# Altium footprint library ESP32-WROOM-32.PcbLib: 1 footprints
Each footprint in its own frame and in the unit in brackets; x right, y up, seen from the top. Pads: shape width x height; smd on the part's side, far side on the other; paste and mask are expansions set on the pad; w line width, h text height; cw(c..) or ccw(c..) is an arc to the next point about the centre after c.
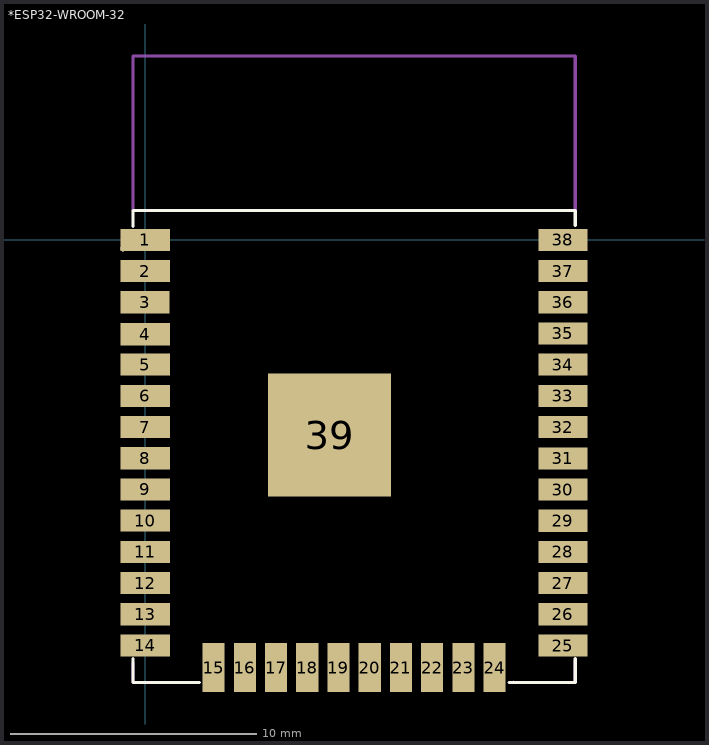
[diagram p0: the footprint, top view; thin cyan lines are the x and y axes]

## *ESP32-WROOM-32 [mm]
pads (39):
  rect 2x0.9 smd: 1(0,0) 2(0,-1.27) 3(-0.01,-2.54) 4(0,-3.84) 5(0,-5.08) 6(0,-6.35) 7(0,-7.62) 8(0,-8.89) 9(0,-10.16) 10(0,-11.43) 11(0,-12.7) 12(0,-13.97) 13(0,-15.24) 14(0,-16.51) 25(16.999,-16.511) 26(16.999,-15.238) 27(17.001,-13.971) 28(16.999,-12.702) 29(16.997,-11.432) 30(16.999,-10.161) 31(17.002,-8.891) 32(17,-7.622) 33(17,-6.35) 34(17,-5.08) 35(17,-3.81) 36(17,-2.54) 37(17,-1.27) 38(17,0)
  rect 0.9x2 smd: 15(2.785,-17.41) 16(4.055,-17.41) 17(5.325,-17.41) 18(6.595,-17.41) 19(7.865,-17.41) 20(9.135,-17.41) 21(10.405,-17.41) 22(11.675,-17.41) 23(12.945,-17.41) 24(14.215,-17.41)
  rect 5x5 smd: 39(7.502,-7.946)
Top Overlay:
  circle w0: c-0.9,-0.35 r0.092
  lines w0.127: -0.5,-17.05 -0.5,-18.01 2.2,-18.01 ; -0.5,0.54 -0.5,1.19 17.5,1.19 17.5,0.58 ; 14.81,-18.01 17.5,-18.01 17.5,-17.05
Mechanical 4:
  lines w0.127: -0.5,-18.01 2.05,-18.01 -0.5,-18.01 ; -0.5,-18.01 -0.5,-17.23 -0.5,-18.01 ; -0.5,1.19 -0.5,7.49 ; -0.5,1.19 17.5,1.19 ; -0.5,1.19 -0.5,7.49 ; -0.5,1.19 17.5,1.19 ; -0.5,7.49 17.5,7.49 ; -0.5,7.49 17.5,7.49 ; 14.99,-18.01 14.98,-18 14.99,-18.01 ; 14.99,-18.01 17.5,-18.01 ; 14.99,-18.01 17.5,-18.01 ; 17.5,-18.01 17.5,-17.13 17.5,-18.01 ; 17.5,1.19 17.5,7.49 ; 17.5,1.19 17.5,7.49
  text "ESP32-WROOM-32" at 12,0.01 h1.88
  text "ANTENNA" at 4.47,3.74 h1.88
  text "ESP32-WROOM-32" at 12,0.01 h1.88
  text "ANTENNA" at 4.47,3.74 h1.88